# Altium footprint library PcbLib_ICs.PcbLib: 1 footprints
Each footprint in its own frame and in the unit in brackets; x right, y up, seen from the top. Pads: shape width x height; smd on the part's side, far side on the other; paste and mask are expansions set on the pad; w line width, h text height; cw(c..) or ccw(c..) is an arc to the next point about the centre after c.
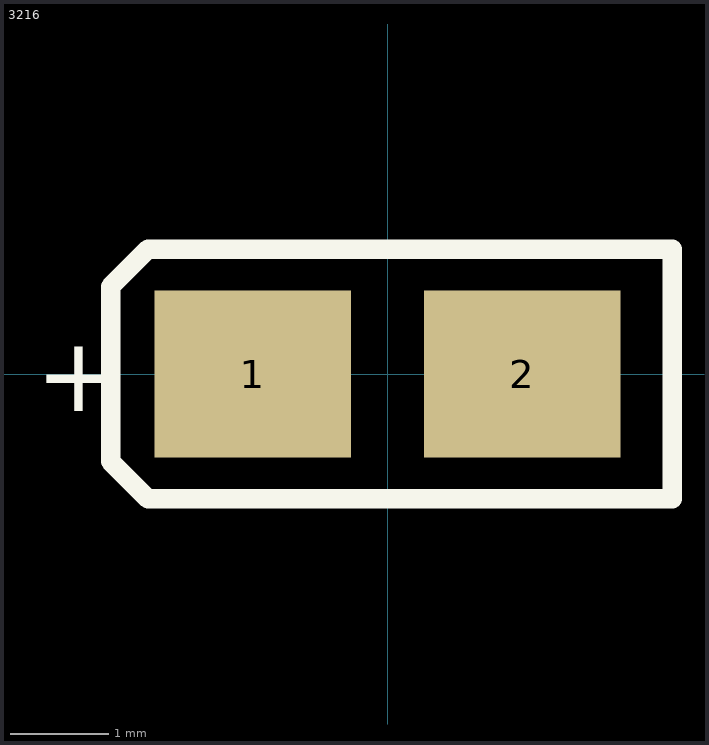
[diagram p0: the footprint, top view; thin cyan lines are the x and y axes]

## 3216 [mm] "TAJ-A"
pads (2):
  rect 2x1.7 smd: 1(-1.373,0) 2(1.373,0)
Top Overlay:
  lines w0.2: 2.897,-1.016 2.897,1.27 -2.437,1.27 -2.818,0.889 -2.818,-0.889 -2.437,-1.27 2.897,-1.27 2.897,1.016
  text "+" at -3.58,-0.381 h0.76
3D body "TAJ-A.STEP": height 1.6, standoff 0, extent -1.6,-0.8 1.6,0.8